# Altium footprint library footprint.PcbLib: 34 footprints (part 2 of 3)
Each footprint in its own frame and in the unit in brackets; x right, y up, seen from the top. Pads: shape width x height; smd on the part's side, far side on the other; paste and mask are expansions set on the pad; w line width, h text height; cw(c..) or ccw(c..) is an arc to the next point about the centre after c.
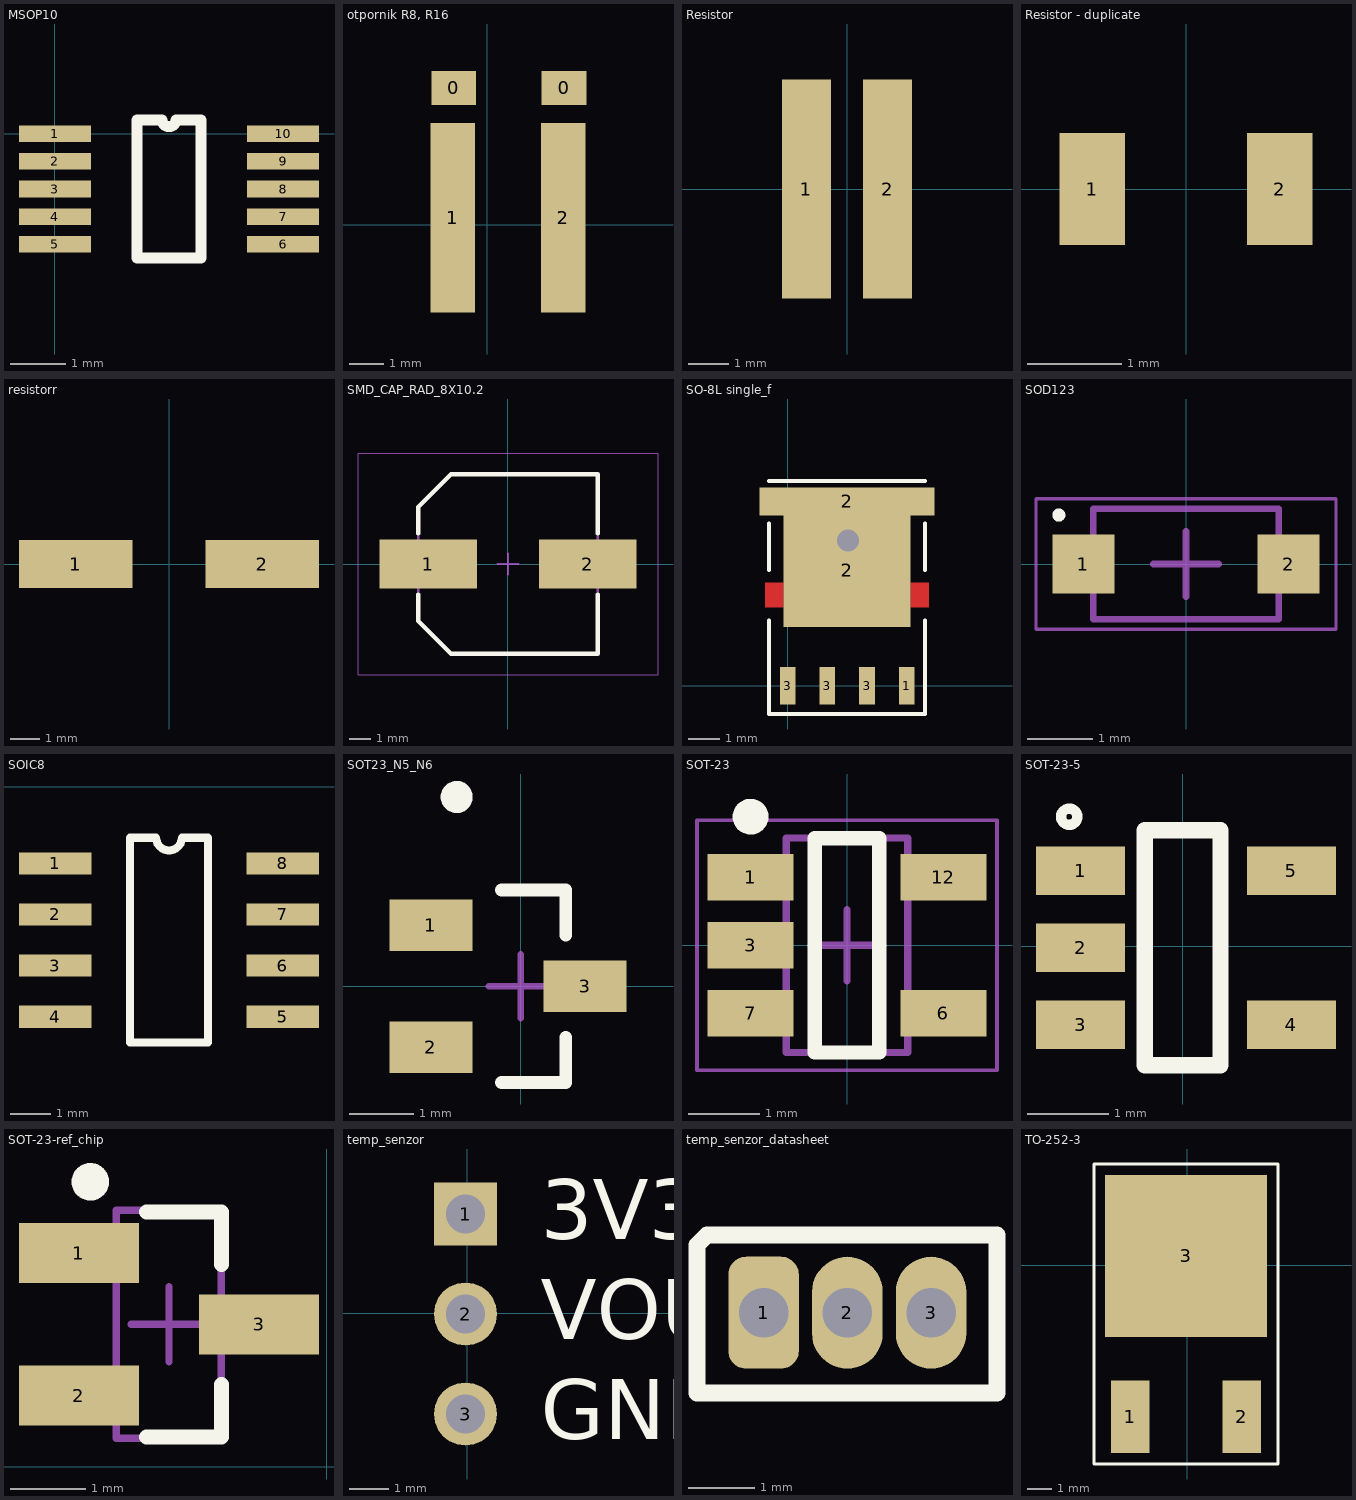
[diagram p1: the footprints below, top view; thin cyan lines are the x and y axes]

## MSOP10 [mm]
pads (10):
  rect 1.3x0.3 smd: 1(0,0) 2(0,-0.5) 3(0,-1) 4(0,-1.5) 5(0,-2) 6(4.118,-2) 7(4.118,-1.5) 8(4.118,-1) 9(4.118,-0.5) 10(4.118,0)
Top Overlay:
  lines w0.2: 1.485,-2.25 2.633,-2.25 2.633,0.25 2.184,0.25 cw(c2.059,0.25) 1.934,0.25 1.485,0.25 1.485,-2.25

## otpornik R8, R16 [mm]
pads (4):
  rect 1.3x0.98 smd: 0(-0.974,3.966) 0(2.226,3.966)
  rect 1.3x5.5 smd: 1(-1,0.2) 2(2.2,0.2)

## Resistor [mm]
pads (2):
  rect 1.2x5.4 smd: 1(-1,0) 2(1,0)

## Resistor - duplicate [mm]
pads (2):
  rect 0.7x1.2 smd: 1(-1,0) 2(1,0)

## resistorr [mm]
pads (2):
  rect 3.8x1.6 smd: 1(-3.125,0) 2(3.125,0)

## SMD_CAP_RAD_8X10.2 [mm]
height 10.5
pads (2):
  rect 4.6x2.3 smd: 1(-3.775,0) 2(3.775,0)
Top Overlay:
  lines w0.2: -4.25,-1.45 -4.25,-2.7 -2.7,-4.25 4.25,-4.25 4.25,-1.45 ; -4.25,1.45 -4.25,2.7 -2.7,4.25 4.25,4.25 4.25,1.45
Mechanical 13:
  lines w0.1: -4.25,-2.7 -4.25,2.7 -2.7,4.25 4.25,4.25 4.25,-4.25 -2.7,-4.25 -4.25,-2.7
Mechanical 15:
  lines w0.05: -7.1,-5.25 7.1,-5.25 7.1,5.25 -7.1,5.25 -7.1,-5.25
  lines w0.1: -0.5,0 0.5,0 ; 0,-0.5 0,0.5
3D body: height 10.5, standoff 0, extent -4.25,-4.25 4.25,4.25
3D body: height 3.5, standoff 0, extent -4.25,-4.25 4.25,4.25

## SO-8L single_f [mm]
pads (6):
  rect 0.5x1.2 smd: 1(3.81,0) 3(0,0) 3(1.27,0) 3(2.54,0)
  rect 5.6x0.9 smd: 2(1.9,5.9)
  rect 4.061x3.63 smd: 2(1.905,3.706)
via 1.93,4.65 diameter 0.8 hole 0.711
Top Layer:
  rectangle: -0.72,2.501 -0.125,3.311
  rectangle: 3.935,2.501 4.53,3.311
Top Overlay:
  lines w0.127: -0.6,2.1 -0.6,0.275 -0.6,-0.9 4.4,-0.9 4.4,2.1 ; -0.6,3.7 -0.6,5.2 ; -0.6,6.55 4.4,6.55 ; 4.4,3.7 4.4,5.2

## SOD123 [mm] "SODFL, 2-Leads, Body 1,55x3,70mm, IPC Medium Density"
height 1
pads (2):
  rect 0.95x0.9 smd: 1(-1.575,0) 2(1.575,0)
Top Overlay:
  circle w0.1: c-1.95,0.75 r0.05
Mechanical 13:
  lines w0.1: -1.425,-0.85 1.425,-0.85 1.425,0.85 -1.425,0.85 -1.425,-0.85
Mechanical 15:
  lines w0.05: -2.3,-1 2.3,-1 2.3,1 -2.3,1 -2.3,-1
  lines w0.1: -0.5,0 0.5,0 ; 0,-0.5 0,0.5
3D body: height 1, standoff 0, extent -1.425,-0.85 1.425,0.85

## SOIC8 [mm]
pads (8):
  rect 1.8x0.55 smd: 1(2.85,-1.905) 2(2.85,-3.175) 3(2.85,-4.445) 4(2.85,-5.715) 5(8.5,-5.715) 6(8.5,-4.445) 7(8.5,-3.175) 8(8.5,-1.905)
Top Overlay:
  lines w0.2: 4.71,-6.35 4.71,-1.27 5.358,-1.27 ccw(c5.675,-1.27) 5.993,-1.27 6.64,-1.27 6.64,-6.35 4.71,-6.35

## SOT23_N5_N6 [mm] "SOT23, 3-Leads, Body 2,90x2,90mm, Pitch 2,00mm, IPC Medium Density"
height 0.91
pads (3):
  rect 1.3x0.8 smd: 1(-1.4,0.95) 2(-1.4,-0.95) 3(1,0)
Top Overlay:
  circle w0.25: c-1,2.95 r0.125
  lines w0.2: -0.3,-1.5 0.7,-1.5 0.7,-0.8 ; -0.3,1.5 0.7,1.5 0.7,0.8
Mechanical 15:
  lines w0.1: -0.5,0 0.5,0 ; 0,-0.5 0,0.5

## SOT-23 [mm] "SOT23, 5-Leads, Body 2,90x2,80mm, Pitch 0,95mm, IPC Medium Density"
height 1.45
pads (5):
  rect 1.2x0.65 smd: 1(-1.35,0.95) 3(-1.35,0) 6(1.35,-0.95) 7(-1.35,-0.95) 12(1.35,0.95)
Top Overlay:
  circle w0.25: c-1.35,1.8 r0.125
  lines w0.2: -0.45,-1.5 0.45,-1.5 0.45,1.5 -0.45,1.5 -0.45,-1.5
Mechanical 13:
  lines w0.1: -0.85,-1.5 -0.85,1.5 0.85,1.5 0.85,-1.5 -0.85,-1.5
Mechanical 15:
  lines w0.05: -2.1,-1.75 -2.1,1.75 2.1,1.75 2.1,-1.75 -2.1,-1.75
  lines w0.1: -0.5,0 0.5,0 ; 0,-0.5 0,0.5
3D body: height 1.45, standoff 0, extent -0.85,-1.5 0.85,1.5

## SOT-23-5 [mm]
pads (5):
  rect 1.1x0.6 smd paste-25.4 mask-25.4: 1(-1.262,0.931) 2(-1.262,-0.019) 3(-1.262,-0.969) 4(1.338,-0.969) 5(1.338,0.931)
Top Overlay:
  circle w0.127: c-1.402,1.597 r0.1
  lines w0.2: -0.47,-1.469 0.463,-1.469 0.463,1.431 -0.47,1.431 -0.47,-1.469
Top Paste:
  region: -1.812,0.631 -0.712,0.631 -0.712,1.231 -1.812,1.231
  region: -1.812,-0.319 -0.712,-0.319 -0.712,0.281 -1.812,0.281
  region: -1.812,-1.269 -0.712,-1.269 -0.712,-0.669 -1.812,-0.669
  region: 0.788,-1.269 1.888,-1.269 1.888,-0.669 0.788,-0.669
  region: 0.788,0.631 1.888,0.631 1.888,1.231 0.788,1.231
Top Solder:
  region: -1.812,0.631 -0.712,0.631 -0.712,1.231 -1.812,1.231
  region: -1.812,-0.319 -0.712,-0.319 -0.712,0.281 -1.812,0.281
  region: -1.812,-1.269 -0.712,-1.269 -0.712,-0.669 -1.812,-0.669
  region: 0.788,-1.269 1.888,-1.269 1.888,-0.669 0.788,-0.669
  region: 0.788,0.631 1.888,0.631 1.888,1.231 0.788,1.231

## SOT-23-ref_chip [mm] "SOT23, 3-Leads, Body 2,92x2,80mm, Pitch 0,95mm, IPC Medium Density"
height 1.45
pads (3):
  rect 1.6x0.8 smd: 1(-3.3,2.85) 2(-3.3,0.95) 3(-0.9,1.9)
Top Overlay:
  circle w0.25: c-3.15,3.8 r0.125
  lines w0.2: -2.4,0.4 -1.4,0.4 -1.4,1.1 ; -2.4,3.4 -1.4,3.4 -1.4,2.7
Mechanical 13:
  lines w0.1: -2.8,0.38 -2.8,3.42 -1.4,3.42 -1.4,0.38 -2.8,0.38
Mechanical 15:
  lines w0.1: -2.6,1.9 -1.6,1.9 ; -2.1,1.4 -2.1,2.4
3D body: height 1.45, standoff 1.12, extent -2.8,0.38 -1.4,3.42

## temp_senzor [mm]
pads (3):
  rect 1.6x1.6 hole 1: 1(-0.049,2.521)
  round 1.6 hole 1: 2(-0.049,-0.019) 3(-0.049,-2.559)
Mid-Layer 9:
  lines w0.254: -1.319,-3.829 -1.319,3.791 1.221,3.791 1.221,-3.829 -1.319,-3.829
Top Overlay:
  text "GND" at 1.856,-3.194 h1.52
  text "3V3" at 1.856,1.886 h1.52
  text "VOUT" at 1.856,-0.654 h1.52

## temp_senzor_datasheet [mm]
pads (3):
  rrect50% 1.07x1.7 hole 0.75: 1(-167.64,73.82)
  oval 1.07x1.7 hole 0.75: 2(-166.37,73.82) 3(-165.1,73.82)
Top Overlay:
  lines w0.254: -168.65,72.6 -168.65,74.85 -168.5,75 -164.1,75 -164.1,72.6 -168.65,72.6

## TO-252-3 [mm]
pads (3):
  rect 1.6x3 smd paste-25.4 mask-25.4: 1(-2.348,-6.266) 2(2.252,-6.266)
  rect 6.7x6.7 smd paste-25.4 mask-25.4: 3(-0.048,0.384)
Top Overlay:
  lines w0.127: -3.848,-8.216 3.752,-8.216 3.752,4.184 -3.848,4.184 -3.848,-8.216
Top Paste:
  region: -3.398,-2.966 3.302,-2.966 3.302,3.734 -3.398,3.734
  region: -1.548,-7.766 -1.548,-4.766 -3.148,-4.766 -3.148,-7.766
  region: 3.052,-7.766 3.052,-4.766 1.452,-4.766 1.452,-7.766
Top Solder:
  region: -3.398,-2.966 3.302,-2.966 3.302,3.734 -3.398,3.734
  region: -1.548,-7.766 -1.548,-4.766 -3.148,-4.766 -3.148,-7.766
  region: 3.052,-7.766 3.052,-4.766 1.452,-4.766 1.452,-7.766